# EAGLE library part SI4532CDY-T1-GE3 (library SI4532CDY-T1-GE3)
Vishay SI4532CDY-T1-GE3 Dual N/P-channel MOSFET Transistor, 8-Pin SOIC Source: Datasheet <http://www.vishay.com/docs/64805/si4532cd.pdf>
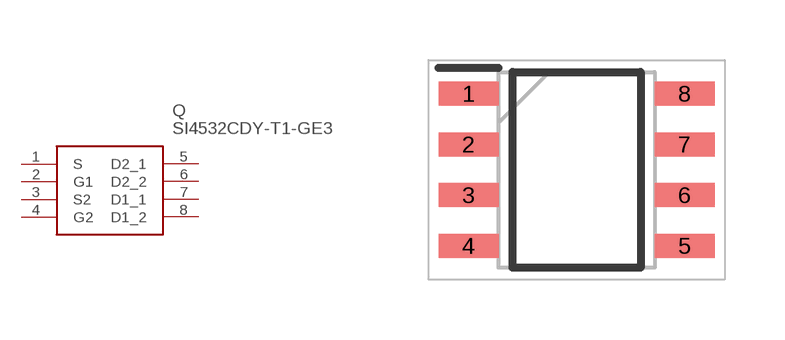
[diagram p0: symbol with the pads of SOT127P600X175-8N; footprint SOT127P600X175-8N]

Designator prefix Q

## SI4532CDY-T1-GE3 (Description: Vishay SI4532CDY-T1-GE3 Dual N/P-channel MOSFET Transistor, 8-Pin SOIC; Height: 1.75mm; Manufacturer_Name: Vishay; Manufacturer_Part_Number: SI4532CDY-T1-GE3; Mouser_Part_Number: 781-SI4532CDY-GE3; Mouser_Price-Stock: https://www.mouser.co.uk/ProductDetail/Vishay-Semiconductors/SI4532CDY-T1-GE3?qs=45wPT2wjtGnob1HAmZ9n7g%3D%3D)  [SOT127P600X175-8N]
1  S
2  G1
3  S2
4  G2
5  D2_1
6  D2_2
7  D1_1
8  D1_2

## Footprint SOT127P600X175-8N (pad centres in mm)
SOIC (NARROW): 8-LEAD
smd 1.5 x 0.6: 1 -2.7,1.905; 2 -2.7,0.635; 3 -2.7,-0.635; 4 -2.7,-1.905; 5 2.7,-1.905; 6 2.7,-0.635; 7 2.7,0.635; 8 2.7,1.905